# Altium schematic symbol library 二极管.SchLib: 27 symbols
Pins are listed as number, name and electrical type; pins without a type are passive.

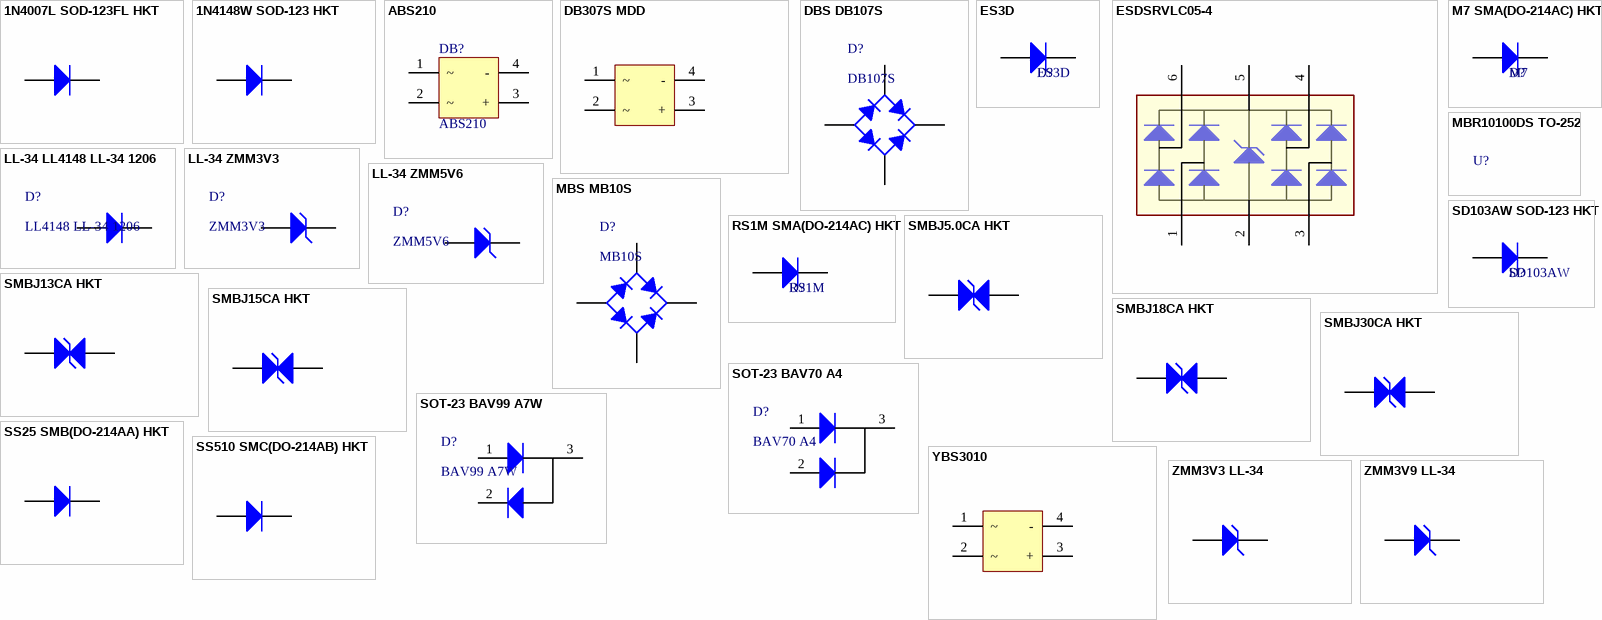
[diagram p0: symbols 1N4007L SOD-123FL HKT to ZMM3V9 LL-34]

## 1N4007L SOD-123FL HKT
designator D?, comment 1N4007L
普通二极管 直流反向耐压(Vr)：1kV 平均整流电流(Io)：1A 正向压降(Vf)：1V@1A; 厂家: HKT; 金蝶料号: 010104010003; 工作温度: -50 ~+150℃; 插件/贴片: 贴片; 器件状态: 启用; 厂家型号: 1N4007L; 值: 1N4007L
footprint SOD-123F
pins: 1 A, 2 K

## 1N4148W SOD-123 HKT
designator D?, comment 1N4148W
开关二极管 100V 300mA; 厂家: HKT; 金蝶料号: 010104090003; 工作温度: -55 ~+150℃; 插件/贴片: 贴片; 器件状态: 启用; 厂家型号: 1N4148W; 值: 1N4148W
footprint SOD-123
pins: 1 A, 2 K

## ABS210
designator DB?
贴片整流桥 1000V /2A; 厂家: HKT; 金蝶料号: 010104050001; 插件/贴片: 贴片; 器件状态: 启用; 厂家型号: ABS210
footprint ABS10
pins: 1 ~, 2 ~, 3 +, 4 -

## DB307S MDD
designator DB?, comment DB307S
整流桥 1000V 3A; 厂家: MDD; 金蝶料号: 010104050003; 工作温度: -55~+150℃; 插件/贴片: 贴片; 器件状态: 在用; 厂家型号: DB307S; 值: DB307S
footprint DB307S-MDD
pins: 1 ~, 2 ~, 3 +, 4 -

## DBS DB107S
designator D?, comment DB107S
整流桥; ComponentLink1Description: 供应商链接; ComponentLink1URL: http://www.szlcsc.com/product/details_5809.html; Package: DBS; Supplier: LC; SuppliersPartNumber: C5377
footprint DBS
pins: 1 C, 2 K, 3 C, 4 A

## ES3D
designator D?
3A; 厂家: HKT; 金蝶料号: 010104010004; 工作温度: -50 ~+150℃; 插件/贴片: 贴片; 值: M7; 器件状态: 启用; 厂家型号: ES3D
footprint SMC(DO-214AB)
pins: 1 A, 2 K

## ESDSRVLC05-4
designator D?
Air 18KV , Contact / 13KV; 厂家: 音特电子; 金蝶料号: 010104070001; 工作温度: -50~+125℃; 插件/贴片: 贴片; 值: YBS3010; 器件状态: 在用; 厂家型号: ESDSRVLC05-4
footprint SOT-23-6
pins: 1, 2, 3, 4, 5, 6

## LL-34 LL4148 LL-34 1206
designator D?, comment LL4148 LL-34 1206
开关二极管; ComponentLink1Description: 供应商链接; ComponentLink1URL: http://www.szlcsc.com/product/details_10338.html; Package: LL-34; Supplier: LC; SuppliersPartNumber: C9808
footprint LL-34
pins: 1 A, 2 K

## LL-34 ZMM3V3
designator D?, comment ZMM3V3
稳压二极管; ComponentLink1Description: 供应商链接; ComponentLink1URL: http://www.szlcsc.com/product/details_8535.html; Package: LL-34; Supplier: LC; SuppliersPartNumber: C8056
footprint LL-34
pins: 1 A, 2 K

## LL-34 ZMM5V6
designator D?, comment ZMM5V6
稳压二极管; ComponentLink1Description: 供应商链接; ComponentLink1URL: http://www.szlcsc.com/product/details_8541.html; Package: LL-34; Supplier: LC; SuppliersPartNumber: C8062
footprint LL-34
pins: 1 A, 2 K

## M7 SMA(DO-214AC) HKT
designator D?, comment M7
普通二极管 直流反向耐压(Vr)：1kV 平均整流电流(Io)：1A 正向压降(Vf)：1.1V@1A; 厂家: HKT; 金蝶料号: 010104010004; 工作温度: -50 ~+150℃; 插件/贴片: 贴片; 器件状态: 启用; 厂家型号: M7; 值: M7
footprint SMA(DO-214AC)
pins: 1 A, 2 K

## MBR10100DS TO-252
designator U?
肖特基二极管; 厂家: *; 厂家型号: *; 金蝶料号: *; 工作温度: *; 插件/贴片: *; 值: *; 器件状态: *; ComponentLink1Description: New link; ComponentLink1URL: *
footprint 0603

## MBS MB10S
designator D?, comment MB10S
整流桥; ComponentLink1Description: 供应商链接; ComponentLink1URL: http://www.szlcsc.com/product/details_2865.html; Package: MBS; Supplier: LC; SuppliersPartNumber: C2488
footprint MBS
pins: 1 C, 2 K, 3 C, 4 A

## RS1M SMA(DO-214AC) HKT
designator D?, comment RS1M
快速恢复二极管; 厂家: HKT; 金蝶料号: 010104030001; 工作温度: -50 ~+150℃; 插件/贴片: 贴片; 器件状态: 启用; 厂家型号: RS1M; 值: RS1M
footprint SMA(DO-214AC)
pins: 1 A, 2 K

## SD103AW SOD-123 HKT
designator D?, comment SD103AW
肖特基二极管; 厂家: HKT; 厂家型号: SD103AW SOD-123; 金蝶料号: 010104040004; 工作温度: -50 ~+150℃; 插件/贴片: 贴片; 器件状态: 启用; 值: SD103AW SOD-123
footprint SOD-123
pins: 1 A, 2 K

## SMBJ5.0CA HKT
designator D?, comment SMBJ5.0CA
双向TVS二极管 5.0V; 厂家: HKT; 金蝶料号: 010104060009; 工作温度: –55 to +150℃; 插件/贴片: 贴片; 器件状态: 在用; 厂家型号: SMBJ5.0CA; 值: SMBJ5.0CA; ComponentLink1Description: New link; ComponentLink1URL: *
footprint SMB(DO-214AA)
pins: 1 A, 2 K

## SMBJ13CA HKT
designator D?, comment SMBJ13CA
双向TVS二极管 13V; 厂家: HKT; 金蝶料号: 010104060008; 工作温度: –55 to +150℃; 插件/贴片: 贴片; 器件状态: 在用; 厂家型号: SMBJ13CA; 值: SMBJ13CA; ComponentLink1Description: New link; ComponentLink1URL: *
footprint SMB(DO-214AA)
pins: 1 A, 2 K

## SMBJ15CA HKT
designator D?, comment SMBJ15CA
双向TVS二极管 15V; 厂家: HKT; 金蝶料号: 010104060003; 工作温度: –55 to +150℃; 插件/贴片: 贴片; 器件状态: 在用; 厂家型号: SMBJ15CA; 值: SMBJ15CA; ComponentLink1Description: New link; ComponentLink1URL: *
footprint SMB(DO-214AA)
pins: 1 A, 2 K

## SMBJ18CA HKT
designator D?, comment SMBJ18CA
双向TVS二极管 18V; 厂家: HKT; 金蝶料号: 010104060006; 工作温度: –55 to +150℃; 插件/贴片: 贴片; 器件状态: 在用; 厂家型号: SMBJ18CA; 值: SMBJ18CA; ComponentLink1Description: New link; ComponentLink1URL: *
footprint SMB(DO-214AA)
pins: 1 A, 2 K

## SMBJ30CA HKT
designator D?, comment SMBJ30CA
双向TVS二极管 30V; 厂家: HKT; 金蝶料号: 010104060007; 工作温度: –55 to +150℃; 插件/贴片: 贴片; 器件状态: 在用; 厂家型号: SMBJ30CA; 值: SMBJ30CA; ComponentLink1Description: New link; ComponentLink1URL: *
footprint SMB(DO-214AA)
pins: 1 A, 2 K

## SOT-23 BAV70 A4
designator D?, comment BAV70 A4
开关二极管; ComponentLink1Description: 供应商链接; ComponentLink1URL: http://www.szlcsc.com/product/details_70091.html; Package: SOT-23; Supplier: LC; SuppliersPartNumber: C68978
footprint SOT-23(SOT-23-3)
pins: 1 A, 2 A, 3 K

## SOT-23 BAV99 A7W
designator D?, comment BAV99 A7W
开关二极管; ComponentLink1Description: 供应商链接; ComponentLink1URL: http://www.szlcsc.com/product/details_2877.html; Package: SOT-23; Supplier: LC; SuppliersPartNumber: C2500
footprint SOT-23(SOT-23-3)
pins: 1 A, 2 A, 3 K

## SS25 SMB(DO-214AA) HKT
designator D?, comment SS25
肖特基二极管 50V 2A; 厂家: HKT; 金蝶料号: 010104040008; 工作温度: – 65 to +150℃; 插件/贴片: 贴片; 器件状态: 在用; 厂家型号: SS25; 值: SS25; ComponentLink1Description: New link; ComponentLink1URL: *
footprint SMA(DO-214AC)
pins: 1 A, 2 K

## SS510 SMC(DO-214AB) HKT
designator D?, comment SS510
肖特基二极管 100V 5A; 厂家: HKT; 金蝶料号: 010104040009; 工作温度: – 65 to +150℃; 插件/贴片: 贴片; 器件状态: 在用; 厂家型号: SS510; 值: SS510; ComponentLink1Description: New link; ComponentLink1URL: *
footprint SMC(DO-214AB)
pins: 1 A, 2 K

## YBS3010
designator DB?
整流桥 100V 3A; 厂家: 杨杰; 金蝶料号: 010104050002; 工作温度: -55~+150℃; 插件/贴片: 贴片; 器件状态: 在用; 厂家型号: YBS3010; 值: YBS3010
footprint YBS
pins: 1 ~, 2 ~, 3 +, 4 -

## ZMM3V3 LL-34
designator D?, comment ZMM3V3
稳压二极管 3.1~3.5V; 厂家型号: ZMM3V9; 金蝶料号: 010104020002; 工作温度: -55~+175; 插件/贴片: 贴片; 器件状态: 启用; ComponentLink1Description: datasheet; ComponentLink1URL: *
footprint LL-34
pins: 1 A, 2 K

## ZMM3V9 LL-34
designator D?, comment ZMM3V9
稳压二极管 3.7~4.1V; 金蝶料号: 010104020001; 工作温度: -55~+175; 插件/贴片: 贴片; 器件状态: 启用; 厂家型号: ZMM3V9; ComponentLink1Description: datasheet; ComponentLink1URL: *
footprint LL-34
pins: 1 A, 2 K